# Altium schematic symbol library GRM21AR72A334KAC5L.SchLib: 1 symbol
Pins are listed as number, name and electrical type; pins without a type are passive.

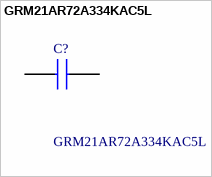
[diagram p0: symbol GRM21AR72A334KAC5L]

## GRM21AR72A334KAC5L
designator C?
Multilayer Ceramic Capacitors MLCC - SMD/SMT .33uF 100Volts 10%; Manufacturer_Name: Murata Electronics; Geometry.Height: 1mm; Mouser Part Number: 81-GRM21AR72A334KA5L; Mouser Price/Stock: https://www.mouser.co.uk/ProductDetail/Murata-Electronics/GRM21AR72A334KAC5L?qs=vS1sKHMaE9WxhFYLmviwXA%3D%3D; Manufacturer_Part_Number: GRM21AR72A334KAC5L; Datasheet Link: *
footprint CAPC2012X100N
pins: 1, 2